# Altium schematic symbol library Intral.SchLib: 6 symbols
Pins are listed as number, name and electrical type; pins without a type are passive.

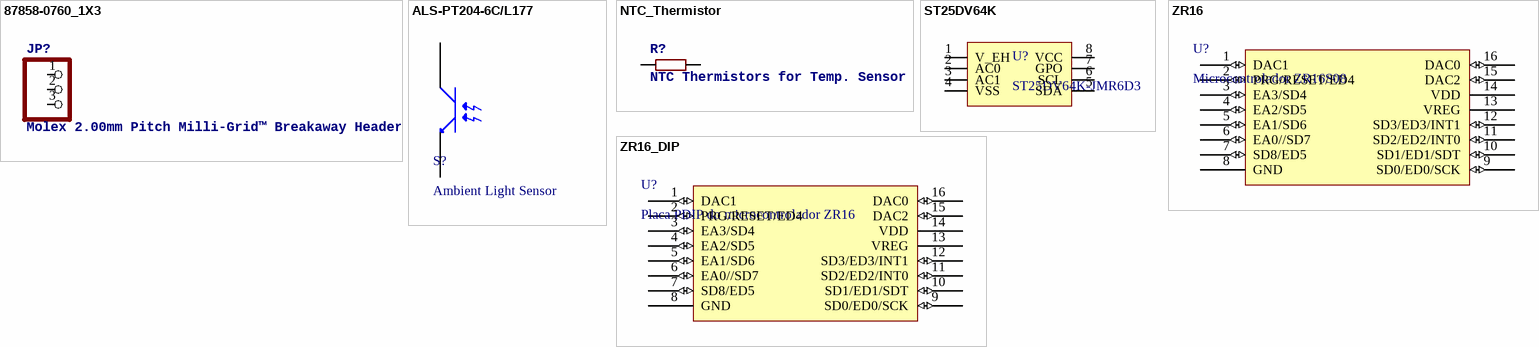
[diagram p0: symbols 87858-0760_1X3 to ZR16_DIP]

## 87858-0760_1X3
designator JP?, comment Molex 2.00mm Pitch Milli-Grid™ Breakaway Header
footprint 87858
pins: 1, 2, 3

## ALS-PT204-6C/L177
designator S?, comment Ambient Light Sensor
footprint 3mm DIP
pins: 0, 1

## NTC_Thermistor
designator R?, comment NTC Thermistors for Temp. Sensor
footprint NTC0805
pins: 1, 2

## ST25DV64K
designator U?, comment ST25DV64K-JMR6D3
RFID Transponder IC 13.56MHz ISO 15693 I²C 1.8 V ~ 5.5 V
footprint SO-8
pins: 1 V_EH, 2 AC0, 3 AC1, 4 VSS, 5 SDA, 6 SCL, 7 GPO, 8 VCC

## ZR16
designator U?, comment Microcontrolador ZR16S08
footprint ZR16
pins: 1 DAC1 (io), 2 PRG/RESET/ED4 (io), 3 EA3/SD4 (io), 4 EA2/SD5 (io), 5 EA1/SD6 (io), 6 EA0//SD7 (io), 7 SD8/ED5 (io), 8 GND (power), 9 SD0/ED0/SCK (io), 10 SD1/ED1/SDT (io), 11 SD2/ED2/INT0 (io), 12 SD3/ED3/INT1 (io), 13 VREG (power), 14 VDD (power), 15 DAC2 (io), 16 DAC0 (io)

## ZR16_DIP
designator U?, comment Placa PDIP do microcontrolador ZR16
footprint ZR16_DIP
pins: 1 DAC1 (io), 2 PRG/RESET/ED4 (io), 3 EA3/SD4 (io), 4 EA2/SD5 (io), 5 EA1/SD6 (io), 6 EA0//SD7 (io), 7 SD8/ED5 (io), 8 GND (power), 9 SD0/ED0/SCK (io), 10 SD1/ED1/SDT (io), 11 SD2/ED2/INT0 (io), 12 SD3/ED3/INT1 (io), 13 VREG (power), 14 VDD (power), 15 DAC2 (io), 16 DAC0 (io)